# Altium integrated library Devices.IntLib: 6 symbols
Pins are listed as number, name and electrical type; pins without a type are passive.

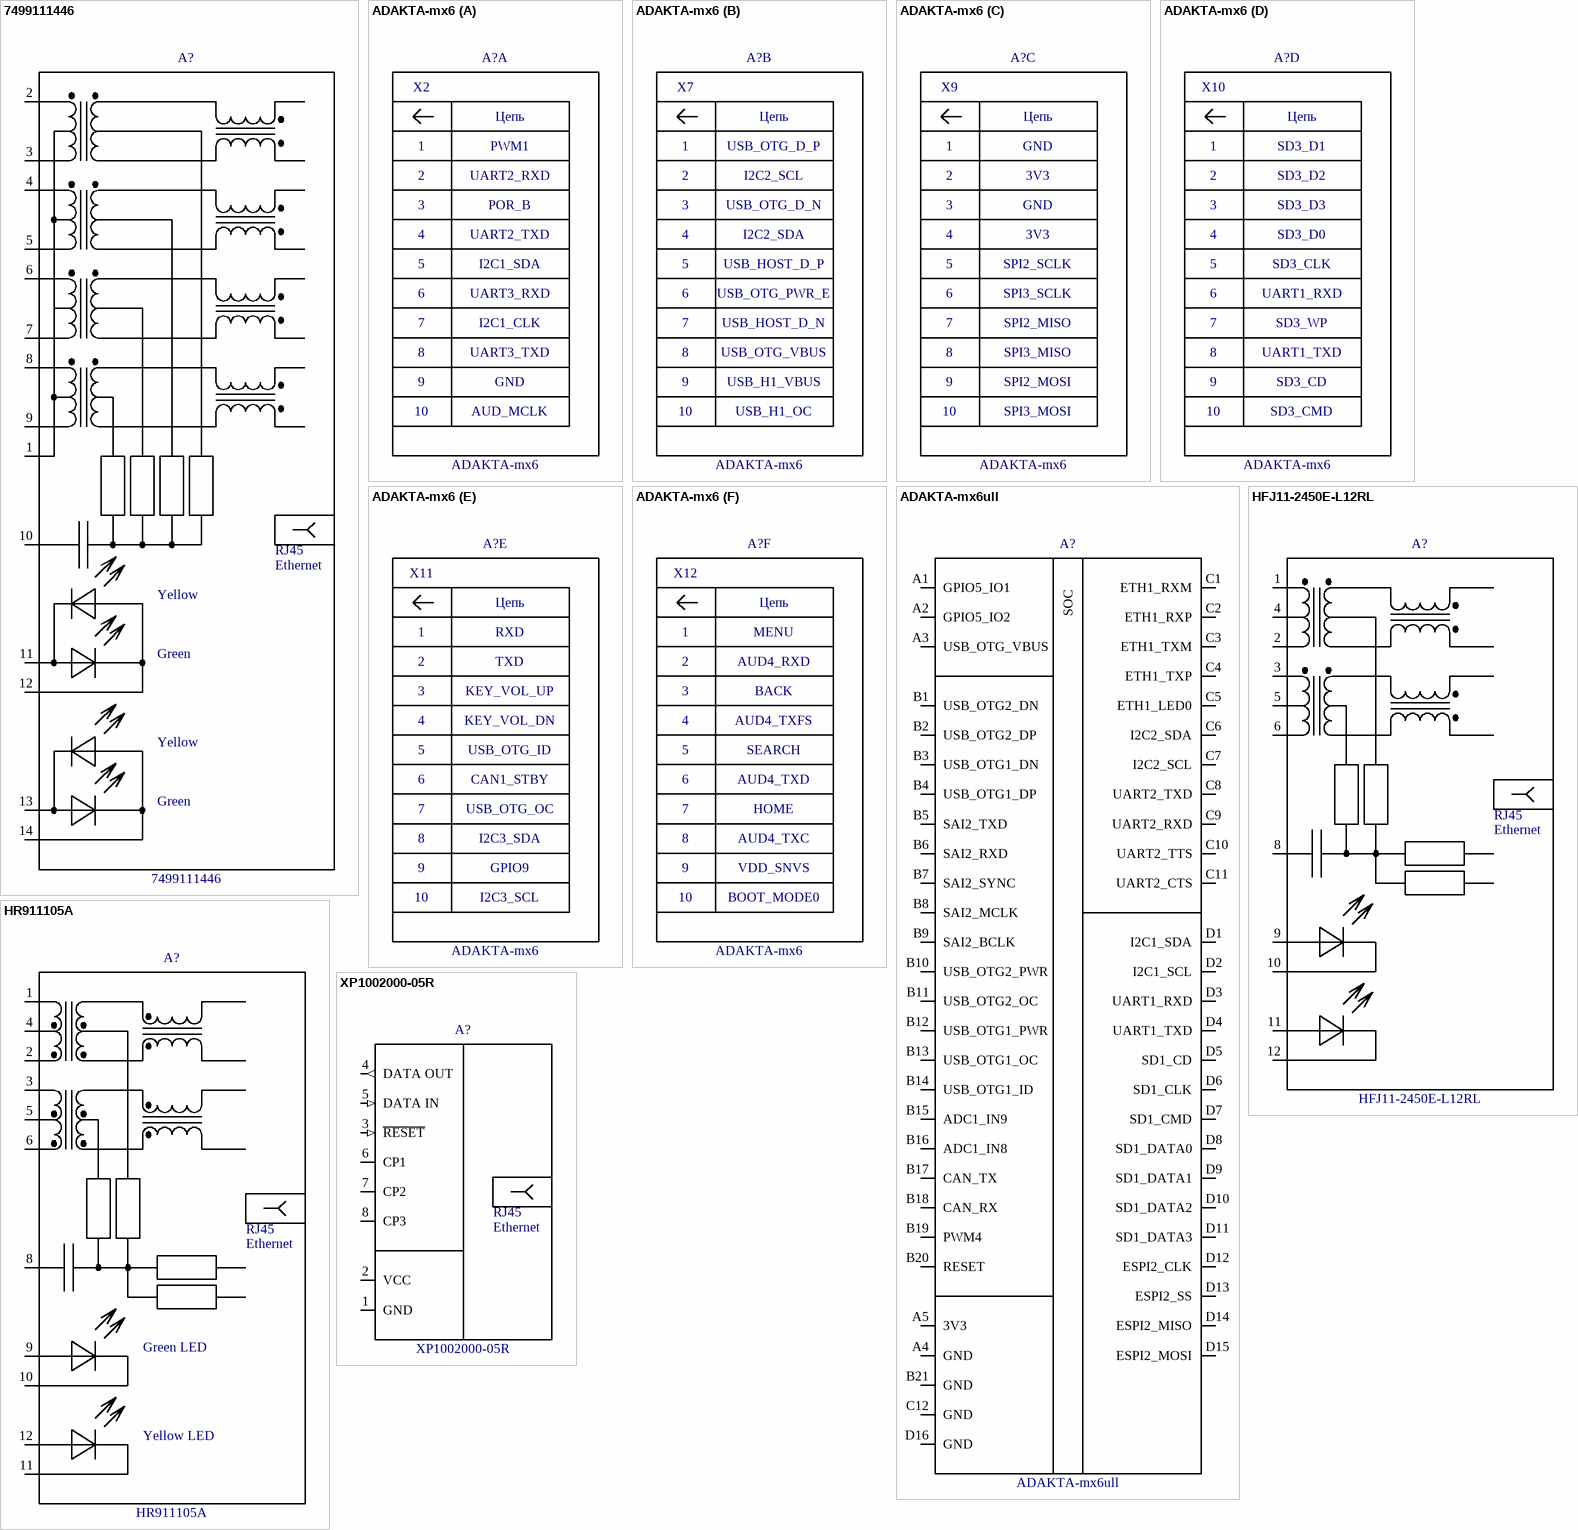
[diagram p0: symbols 7499111446 to XP1002000-05R]

## 7499111446
designator A?
Ethernet Connectors WE-RJ45 Intgtd XFMR 1X1 THT Tab Down EMI
footprint 7499111446 (WE-RJ45 Intgtd XFMR 1X1 THT Tab Down EMI)
pins: 1 CT, 2 TXA+, 3 TXA-, 4 TXB+, 5 TXB-, 6 TXC+, 7 TXC-, 8 TXD+, 9 TXD-, 10 GND (power), 11 LED1-A, 12 LED1-K, 13 LED2-A, 14 LED2-K
text: RJ45; Ethernet; Yellow; Green

## ADAKTA-mx6
designator A?
System on Module based on Freescale iMX6
footprint ADAKTA-mx6 (System on Module based on Freescale iMX6)
part A text: X2; Цепь; 1; PWM1; 2; UART2_RXD; 3; POR_B; 4; UART2_TXD; 5; I2C1_SDA; 6; UART3_RXD; 7; I2C1_CLK; 8; UART3_TXD; 9; GND; 10; AUD_MCLK
part B text: X7; Цепь; 1; USB_OTG_D_P; 2; I2C2_SCL; 3; USB_OTG_D_N; 4; I2C2_SDA; 5; USB_HOST_D_P; 6; USB_OTG_PWR_E; 7; USB_HOST_D_N; 8; USB_OTG_VBUS; 9; USB_H1_VBUS; 10; USB_H1_OC
part C text: X9; Цепь; 1; GND; 2; 3V3; 3; 4; 5; SPI2_SCLK; 6; SPI3_SCLK; 7; SPI2_MISO; 8; SPI3_MISO; 9; SPI2_MOSI; 10; SPI3_MOSI
part D text: X10; Цепь; 1; SD3_D1; 2; SD3_D2; 3; SD3_D3; 4; SD3_D0; 5; SD3_CLK; 6; UART1_RXD; 7; SD3_WP; 8; UART1_TXD; 9; SD3_CD; 10; SD3_CMD
part E text: X11; Цепь; 1; RXD; 2; TXD; 3; KEY_VOL_UP; 4; KEY_VOL_DN; 5; USB_OTG_ID; 6; CAN1_STBY; 7; USB_OTG_OC; 8; I2C3_SDA; 9; GPIO9; 10; I2C3_SCL
part F text: X12; Цепь; 1; MENU; 2; AUD4_RXD; 3; BACK; 4; AUD4_TXFS; 5; SEARCH; 6; AUD4_TXD; 7; HOME; 8; AUD4_TXC; 9; VDD_SNVS; 10; BOOT_MODE0

## ADAKTA-mx6ull
designator A?
System on Module based on NXP iMX6ull
footprint ADAKTA-mx6ull (System on Module  based on NXP iMX6ull)
pins: A1 GPIO5_IO1 (io), A2 GPIO5_IO2 (io), A3 USB_OTG_VBUS (io), A4 GND (power), A5 3V3 (power), B1 USB_OTG2_DN (io), B2 USB_OTG2_DP (io), B3 USB_OTG1_DN (io), B4 USB_OTG1_DP (io), B5 SAI2_TXD (io), B6 SAI2_RXD (io), B7 SAI2_SYNC (io), B8 SAI2_MCLK (io), B9 SAI2_BCLK (io), B10 USB_OTG2_PWR (io), B11 USB_OTG2_OC (io), B12 USB_OTG1_PWR (io), B13 USB_OTG1_OC (io), B14 USB_OTG1_ID (io), B15 ADC1_IN9 (io), B16 ADC1_IN8 (io), B17 CAN_TX (io), B18 CAN_RX (io), B19 PWM4 (io), B20 RESET (io), B21 GND (power), C1 ETH1_RXM (io), C2 ETH1_RXP (io), C3 ETH1_TXM (io), C4 ETH1_TXP (io), C5 ETH1_LED0 (io), C6 I2C2_SDA (io), C7 I2C2_SCL (io), C8 UART2_TXD (io), C9 UART2_RXD (io), C10 UART2_TTS (io), C11 UART2_CTS (io), C12 GND (power), D1 I2C1_SDA (io), D2 I2C1_SCL (io), D3 UART1_RXD (io), D4 UART1_TXD (io), D5 SD1_CD (io), D6 SD1_CLK (io), D7 SD1_CMD (io), D8 SD1_DATA0 (io), D9 SD1_DATA1 (io), D10 SD1_DATA2 (io), D11 SD1_DATA3 (io), D12 ESPI2_CLK (io), D13 ESPI2_SS (io), D14 ESPI2_MISO (io), D15 ESPI2_MOSI (io), D16 GND (power)
text: SOC

## HFJ11-2450E-L12RL
designator A?
Ethernet Connector 10/100 1x1 Tab Down RJ45 w/mag G/Y LED
footprint HFJ11-2450E-L12RL (Ethernet Connectors 10/100 1x1 Tab Down RJ45 w/mag G/Y LED)
pins: 1 TD+, 2 TD-, 3 RD+, 4 CT, 5 CT, 6 RD-, 8 GND (power), 9 LED1-A, 10 LED1-K, 11 LED2-A, 12 LED2-K
text: RJ45; Ethernet

## HR911105A
designator A?
Ethernet Connector 10/100 1x1 Tab Down RJ45 w/mag G/Y LED
footprint HR911105A (Ethernet Connector 10/100 1x1 Tab Down RJ45 w/mag G/Y LED)
pins: 1 TD+, 2 TD-, 3 RD+, 4 CT, 5 CT, 6 RD-, 8 GND (power), 9 LED1-A, 10 LED1-K, 11 LED2-A, 12 LED2-K
text: RJ45; Ethernet; Green LED; Yellow LED

## XP1002000-05R
designator A?
Lantronix XPort Embedded Device Server
footprint Lantronix_XPort (XPort module)
pins: 1 GND (power), 2 VCC (power), 3 ~{RESET} (in), 4 DATA OUT (out), 5 DATA IN (in), 6 CP1 (io), 7 CP2 (io), 8 CP3 (io)
text: RJ45; Ethernet